# Altium footprint library KeyboardSwitches.PcbLib: 43 footprints (part 1 of 3)
Each footprint in its own frame and in the unit in brackets; x right, y up, seen from the top. Pads: shape width x height; smd on the part's side, far side on the other; paste and mask are expansions set on the pad; w line width, h text height; cw(c..) or ccw(c..) is an arc to the next point about the centre after c.
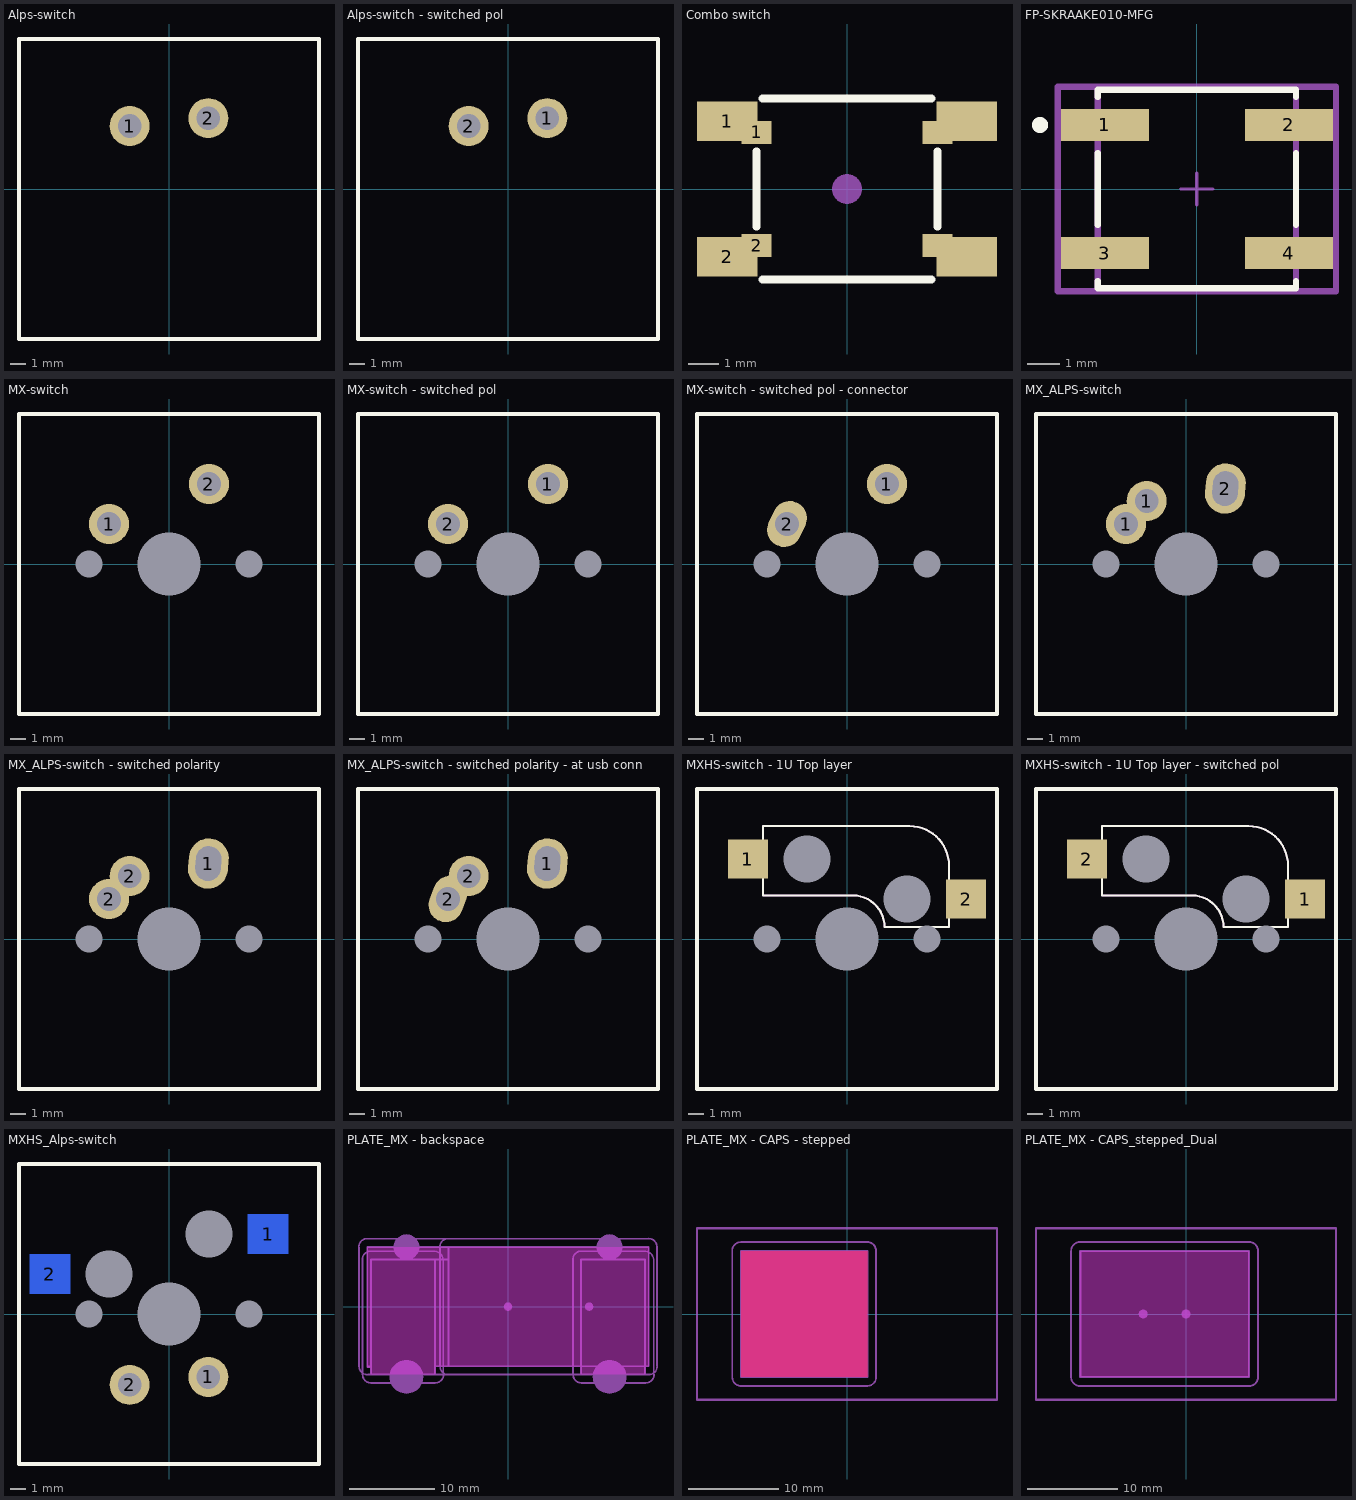
[diagram p0: the footprints below, top view; thin cyan lines are the x and y axes]

## Alps-switch [mm]
pads (2):
  round 2.54 hole 1.499 mask-0.5: 1(-2.5,4) 2(2.5,4.5)
Top Overlay:
  lines w0.254: -9.525,-9.525 9.525,-9.525 9.525,9.525 -9.525,9.525 -9.525,-9.525
Mechanical 1:
  text "TACT Swithch" at -53.086,10.922 h1.52
3D body "asm_mx_asm_PCB.step": height 15.29, standoff -3.31, extent -7.853,-7.673 7.747,7.927

## Alps-switch - switched pol [mm]
pads (2):
  round 2.54 hole 1.499 mask-0.5: 1(2.5,4.5) 2(-2.5,4)
Top Overlay:
  lines w0.254: -9.525,-9.525 9.525,-9.525 9.525,9.525 -9.525,9.525 -9.525,-9.525
3D body "asm_mx_asm_PCB.step": height 15.29, standoff -3.31, extent -7.853,-7.98 7.747,7.62

## Combo switch [mm] "Wurth Electronics Inc."
pads (9):
  rect 2x1.3 smd: 1(-3.975,2.25) 2(-3.975,-2.25) ""(3.975,-2.25) ""(3.975,2.25)
  rect 1x0.75 smd: 1(-3,1.875) 2(-3,-1.875) ""(3,-1.875) ""(3,1.875)
  round 1 on Mech15: ""(0,0)
Top Overlay:
  lines w0.254: -3,-1.25 -3,1.25 ; -2.8,-3 2.8,-3 ; -2.8,3 2.8,3 ; 3,-1.25 3,1.25
3D body "ts-1187a-a-d-b.stp": height 2, standoff 0, extent -3.25,-2.55 3.25,2.55

## FP-SKRAAKE010-MFG [mm]
pads (4):
  rect 2.75x1 smd paste+0 mask+0: 1(-2.875,2) 2(2.875,2) 3(-2.875,-2) 4(2.875,-2)
Top Overlay:
  circle w0.25: c-4.9,2 r0.125
  lines w0.2: -3.1,-2.875 -3.1,-3.1 3.1,-3.1 3.1,-2.875 ; -3.1,-1.125 -3.1,1.125 ; -3.1,2.875 -3.1,3.1 3.1,3.1 3.1,2.875 ; 3.1,-1.125 3.1,1.125
Top 3D Body:
  lines w0.2: -3.1,-3.1 3.1,-3.1 3.1,3.1 -3.1,3.1 -3.1,-3.1
Top Courtyard:
  lines w0.2: -4.35,-3.2 4.35,-3.2 4.35,3.2 -4.35,3.2 -4.35,-3.2
Top Assembly:
  lines w0.2: -4.35,-3.2 4.35,-3.2 4.35,3.2 -4.35,3.2 -4.35,-3.2
  text ".Designator" at 0,0.188 h1
Top Component Center:
  lines w0.1: -0.5,0 0.5,0 ; 0,-0.5 0,0.5
3D body "Switch_ALPS_SKRAAKE010_eec.STEP": height 0.25, standoff 0, extent -4.35,-3.2 4.35,3.2

## MX-switch [mm]
pads (5):
  round 2.54 hole 1.499 mask-0.5: 1(-3.81,2.54) 2(2.54,5.08)
  round 1 hole 1.702 unplated: ""(-5.08,0) ""(5.08,0)
  round 1 hole 3.988 unplated: ""(0,0)
Top Overlay:
  lines w0.254: -9.525,-9.525 9.525,-9.525 9.525,9.525 -9.525,9.525 -9.525,-9.525
3D body "asm_mx_asm_PCB.step": height 15.29, standoff -3.31, extent -7.853,-7.98 7.747,7.62

## MX-switch - switched pol [mm]
pads (5):
  round 2.54 hole 1.499 mask-0.5: 1(2.54,5.08) 2(-3.81,2.54)
  round 1 hole 1.702 unplated: ""(-5.08,0) ""(5.08,0)
  round 1 hole 3.988 unplated: ""(0,0)
Top Overlay:
  lines w0.254: -9.525,-9.525 -9.525,9.525 9.525,9.525 9.525,-9.525 -9.525,-9.525
3D body "asm_mx_asm_PCB.step": height 15.29, standoff -3.31, extent -7.853,-7.98 7.747,7.62

## MX-switch - switched pol - connector [mm]
pads (5):
  round 2.54 hole 1.499 mask-0.5: 1(2.54,5.08)
  oval 2.2x3 hole 1.499 rot 155 mask-0.7: 2(-3.81,2.54)
  round 1 hole 1.702 unplated: ""(-5.08,0) ""(5.08,0)
  round 1 hole 3.988 unplated: ""(0,0)
Top Overlay:
  lines w0.254: -9.525,-9.525 9.525,-9.525 9.525,9.525 -9.525,9.525 -9.525,-9.525
3D body "asm_mx_asm_PCB.step": height 15.29, standoff -3.31, extent -7.853,-7.98 7.747,7.62

## MX_ALPS-switch [mm]
pads (6):
  round 2.54 hole 1.499 mask-0.5: 1(-3.81,2.54) 1(-2.5,4)
  oval 3.2x2.54 hole 1.6 slot 2.2 at 85 deg rot 85 mask-1: 2(2.5,4.79)
  round 1 hole 1.702 unplated: ""(-5.08,0) ""(5.08,0)
  round 1 hole 3.988 unplated: ""(0,0)
Top Overlay:
  lines w0.254: -9.525,-9.525 9.525,-9.525 9.525,9.525 -9.525,9.525 -9.525,-9.525
3D body "asm_mx_asm_PCB.step": height 15.29, standoff -3.31, extent -7.853,-7.98 7.747,7.62

## MX_ALPS-switch - switched polarity [mm]
pads (6):
  oval 3.2x2.54 hole 1.6 slot 2.2 at 85 deg rot 85 mask-1: 1(2.5,4.79)
  round 2.54 hole 1.499 mask-0.5: 2(-3.81,2.54) 2(-2.5,4)
  round 1 hole 1.702 unplated: ""(-5.08,0) ""(5.08,0)
  round 1 hole 3.988 unplated: ""(0,0)
Top Overlay:
  lines w0.254: -9.525,-9.525 -9.525,9.525 9.525,9.525 9.525,-9.525 -9.525,-9.525
3D body "asm_mx_asm_PCB.step": height 15.29, standoff -3.31, extent -7.853,-7.98 7.747,7.62

## MX_ALPS-switch - switched polarity - at usb connector [mm]
pads (6):
  oval 3.2x2.54 hole 1.6 slot 2.2 at 85 deg rot 85 mask-1: 1(2.5,4.79)
  oval 2.2x3 hole 1.499 rot 160 mask-0.7: 2(-3.81,2.54)
  round 2.54 hole 1.499 mask-0.5: 2(-2.5,4)
  round 1 hole 1.702 unplated: ""(-5.08,0) ""(5.08,0)
  round 1 hole 3.988 unplated: ""(0,0)
Top Overlay:
  lines w0.254: -9.525,-9.525 9.525,-9.525 9.525,9.525 -9.525,9.525 -9.525,-9.525
3D body "asm_mx_asm_PCB.step": height 15.29, standoff -3.31, extent -7.853,-7.98 7.747,7.62

## MXHS-switch - 1U Top layer [mm]
pads (7):
  rect 2.55x2.5 smd: 1(-6.29,5.08) 2(7.56,2.54)
  round 1 hole 1.702 unplated: ""(-5.08,0) ""(5.08,0)
  round 0 hole 3 unplated: ""(-2.54,5.08) ""(3.81,2.54)
  round 1 hole 3.988 unplated: ""(0,0)
Top Overlay:
  lines w0.127: -5.319,2.762 -5.319,7.162 3.981,7.162 cw(c3.981,4.662) 6.481,4.662 6.481,0.762 2.381,0.762 ccw(c0.381,0.762) 0.381,2.762 -5.319,2.762
  lines w0.254: -9.525,-9.525 -9.525,9.525 9.525,9.525 9.525,-9.525 -9.525,-9.525
Mechanical 15:
  lines w0.1: 0,-0.5 0,0.5 ; 0.77,0 1.77,0
  lines w0.127: -5.319,2.762 -5.319,7.162 3.981,7.162 cw(c3.981,4.662) 6.481,4.662 6.481,0.762 2.381,0.762 ccw(c0.381,0.762) 0.381,2.762 -5.319,2.762
3D body "kailh_socket_mx.stp": height 0.8, standoff -2.25, extent -6.742,0.968 7.758,6.858

## MXHS-switch - 1U Top layer - switched pol [mm]
pads (7):
  rect 2.55x2.5 smd: 1(7.56,2.54) 2(-6.29,5.08)
  round 1 hole 1.702 unplated: ""(-5.08,0) ""(5.08,0)
  round 0 hole 3 unplated: ""(-2.54,5.08) ""(3.81,2.54)
  round 1 hole 3.988 unplated: ""(0,0)
Top Overlay:
  lines w0.127: -5.319,2.762 0.381,2.762 cw(c0.381,0.762) 2.381,0.762 6.481,0.762 6.481,4.662 ccw(c3.981,4.662) 3.981,7.162 -5.319,7.162 -5.319,2.762
  lines w0.254: -9.525,-9.525 -9.525,9.525 9.525,9.525 9.525,-9.525 -9.525,-9.525
Mechanical 15:
  lines w0.1: 0,-0.5 0,0.5 ; 0.77,0 1.77,0
  lines w0.127: -5.319,2.762 0.381,2.762 cw(c0.381,0.762) 2.381,0.762 6.481,0.762 6.481,4.662 ccw(c3.981,4.662) 3.981,7.162 -5.319,7.162 -5.319,2.762
3D body "kailh_socket_mx.stp": height 0.8, standoff -2.25, extent -6.742,0.968 7.758,6.858

## MXHS_Alps-switch [mm]
pads (9):
  round 2.54 hole 1.499 mask-0.5: 1(2.5,-4) 2(-2.5,-4.5)
  rect 2.55x2.5 smd far side: 1(6.29,5.08) 2(-7.56,2.54)
  round 1 hole 1.702 unplated: ""(-5.08,0) ""(5.08,0)
  round 0 hole 3 unplated: ""(-3.81,2.54) ""(2.54,5.08)
  round 1 hole 3.988 unplated: ""(0,0)
Top Overlay:
  lines w0.254: -9.525,-9.525 -9.525,9.525 9.525,9.525 9.525,-9.525 -9.525,-9.525
3D body "kailh_socket_mx.stp": height 0.8, standoff -2.25, extent -7.758,0.968 6.742,6.858

## PLATE_MX - backspace [mm]
pads (10):
  round 3.988 on Mech13: ""(-11.938,-8.255) ""(11.938,-8.255)
  round 3.048 on Mech13: ""(-11.938,6.985) ""(11.938,6.985)
  round 1 on Mech13: ""(0,0) ""(0,0) ""(0,0) ""(9.525,0) ""(9.525,0) ""(9.525,0)
Top Solder:
  region: -16.114,-9.07 -16.22,-9.07 -16.427,-9.029 -16.623,-8.948 -16.799,-8.83 -16.948,-8.681 -17.066,-8.505 -17.147,-8.309 -17.188,-8.102 -17.188,-7.996 -17.188,-7.982 -17.181,-7.957 -17.168,-7.933 -17.149,-7.915 -17.137,-7.908 -17.244,-7.834 -17.416,-7.639 -17.536,-7.408 -17.598,-7.156 -17.598,-7.026 -17.598,6.945 -17.605,6.952 -17.615,6.968 -17.622,6.986 -17.625,7.004 -17.625,7.014 -17.625,7.12 -17.584,7.327 -17.503,7.523 -17.385,7.699 -17.236,7.848 -17.06,7.966 -16.864,8.047 -16.657,8.088 -16.551,8.088 16.476,8.088 16.482,8.091 16.493,8.096 16.505,8.099 16.518,8.1 16.524,8.1 16.63,8.1 16.837,8.059 17.033,7.978 17.209,7.86 17.358,7.711 17.476,7.535 17.557,7.339 17.598,7.132 17.598,7.026 17.598,-6.945 17.605,-6.952 17.615,-6.968 17.622,-6.986 17.625,-7.004 17.625,-7.014 17.625,-7.141 17.566,-7.39 17.449,-7.617 17.283,-7.811 17.179,-7.885 17.197,-7.889 17.226,-7.907 17.249,-7.934 17.26,-7.966 17.26,-7.984 17.26,-8.087 17.221,-8.291 17.143,-8.483 17.03,-8.656 16.887,-8.805 16.717,-8.924 16.528,-9.008 16.326,-9.054 16.223,-9.058 16.217,-9.061 16.205,-9.066 16.193,-9.069 16.18,-9.07 16.174,-9.07 8.622,-9.07 8.521,-9.07 8.322,-9.033 8.134,-8.958 7.963,-8.851 7.815,-8.713 7.696,-8.549 7.609,-8.367 7.557,-8.171 7.55,-8.07 -7.479,-8.07 -7.487,-8.168 -7.538,-8.357 -7.622,-8.535 -7.737,-8.693 -7.879,-8.829 -8.043,-8.936 -8.224,-9.012 -8.415,-9.054 -8.513,-9.058 -8.519,-9.061 -8.531,-9.066 -8.543,-9.069 -8.556,-9.07 -8.562,-9.07
Bottom Solder:
  region: -16.114,-9.07 -16.22,-9.07 -16.427,-9.029 -16.623,-8.948 -16.799,-8.83 -16.948,-8.681 -17.066,-8.505 -17.147,-8.309 -17.188,-8.102 -17.188,-7.996 -17.188,-7.982 -17.181,-7.957 -17.168,-7.933 -17.149,-7.915 -17.137,-7.908 -17.244,-7.834 -17.416,-7.639 -17.536,-7.408 -17.598,-7.156 -17.598,-7.026 -17.598,6.945 -17.605,6.952 -17.615,6.968 -17.622,6.986 -17.625,7.004 -17.625,7.014 -17.625,7.12 -17.584,7.327 -17.503,7.523 -17.385,7.699 -17.236,7.848 -17.06,7.966 -16.864,8.047 -16.657,8.088 -16.551,8.088 16.476,8.088 16.482,8.091 16.493,8.096 16.505,8.099 16.518,8.1 16.524,8.1 16.63,8.1 16.837,8.059 17.033,7.978 17.209,7.86 17.358,7.711 17.476,7.535 17.557,7.339 17.598,7.132 17.598,7.026 17.598,-6.945 17.605,-6.952 17.615,-6.968 17.622,-6.986 17.625,-7.004 17.625,-7.014 17.625,-7.141 17.566,-7.39 17.449,-7.617 17.283,-7.811 17.179,-7.885 17.197,-7.889 17.226,-7.907 17.249,-7.934 17.26,-7.966 17.26,-7.984 17.26,-8.087 17.221,-8.291 17.143,-8.483 17.03,-8.656 16.887,-8.805 16.717,-8.924 16.528,-9.008 16.326,-9.054 16.223,-9.058 16.217,-9.061 16.205,-9.066 16.193,-9.069 16.18,-9.07 16.174,-9.07 8.622,-9.07 8.521,-9.07 8.322,-9.033 8.134,-8.958 7.963,-8.851 7.815,-8.713 7.696,-8.549 7.609,-8.367 7.557,-8.171 7.55,-8.07 -7.479,-8.07 -7.487,-8.168 -7.538,-8.357 -7.622,-8.535 -7.737,-8.693 -7.879,-8.829 -8.043,-8.936 -8.224,-9.012 -8.415,-9.054 -8.513,-9.058 -8.519,-9.061 -8.531,-9.066 -8.543,-9.069 -8.556,-9.07 -8.562,-9.07
Keep-Out Layer:
  board cut-out: -16.1,-7.97 -16.1,-7.1 -16.525,-7.1 -16.525,7 16.525,7 16.525,-6.996 16.1,-6.996 16.1,-7.97 8.576,-7.97 8.576,-6.996 -8.576,-6.996 -8.576,-7.97
Mechanical 13:
  lines w0.2: -17.525,7.014 cw(c-16.551,7.014) -16.551,7.988 -3.048,7.988 ; -17.498,6.987 -17.498,-7.026 ccw(c-16.524,-7.026) -16.524,-8 ; -17.1,5.544 cw(c-16.126,5.544) -16.126,6.518 -8.716,6.518 cw(c-8.716,5.406) -7.604,5.406 -7.604,-7.956 ; -17.088,5.532 -17.088,-7.996 ccw(c-16.114,-7.996) -16.114,-8.97 -8.562,-8.97 ; -16.494,-7.97 -16.1,-7.97 ; -16.115,-7 -16.525,-7 -16.525,7 -7,7 ; -8.576,-7 -7,-7 ; -8.55,-8.958 ccw(c-8.55,-7.984) -7.576,-7.984 ; -8,7.014 cw(c-7.026,7.014) -7.026,7.988 16.512,7.988 ; -7.988,7.002 -7.988,-7.026 ccw(c-7.014,-7.026) -7.014,-8 ; -7.058,5.53 -8.576,5.53 ; -6.984,-7.97 8.576,-7.97 ; -6.731,-7.97 -8.576,-7.97 ; 7.636,5.544 cw(c8.61,5.544) 8.61,6.518 16.02,6.518 cw(c16.02,5.406) 17.132,5.406 17.132,-7.956 ; 7.648,5.532 7.648,-7.996 ccw(c8.622,-7.996) 8.622,-8.97 16.174,-8.97 ; 8.576,-6.858 8.576,-7.97 ; 16.118,-7.988 16.551,-7.988 ccw(c16.551,-7.014) 17.525,-7.014 ; 16.186,-8.958 ccw(c16.186,-7.984) 17.16,-7.984 ; 16.524,8 cw(c16.524,7.026) 17.498,7.026 17.498,-6.987 ; -16.1,-7.97 -16.1,5.53 -8.576,5.53 ; -16.1,-7.97 -8.576,-7.97 ; -8.576,-7.97 -8.576,5.53 ; -7,-7 -7,7 ; -7,-7 16.525,-7 16.525,7 -7,7 ; 8.576,-7.97 16.1,-7.97 ; 8.576,-7.97 16.1,-7.97 ; 8.576,-7.97 8.576,5.53 16.1,5.53 16.1,-7.97 ; 8.576,-7.97 16.1,-7.97
Mechanical 15:
  lines w0.2: -8.576,-6.985 -8.576,-7.97 -16.1,-7.97 -16.1,-7.1 -16.525,-7.1 ; -8.562,-6.999 8.576,-6.999 8.576,-7.97 16.1,-7.97 16.1,-7 16.51,-7 ; 16.525,-6.985 16.525,7 -16.525,7 -16.525,-7.1 ; -16.525,-7.1 -16.525,-7.1

## PLATE_MX - CAPS - stepped [mm]
pads (2):
  round 1 on Mech13: ""(-4.763,0) ""(-4.763,0)
Top Layer:
  pour cut-out: -11.763,-7 2.238,-7 2.238,7 -11.763,7
Top Solder:
  region: -12.751,-7.026 -12.751,-7.122 -12.713,-7.31 -12.64,-7.487 -12.533,-7.647 -12.397,-7.783 -12.238,-7.889 -12.06,-7.963 -11.872,-8 -11.776,-8 2.251,-8 2.263,-7.988 2.359,-7.988 2.547,-7.951 2.725,-7.877 2.884,-7.771 3.02,-7.635 3.127,-7.475 3.2,-7.298 3.237,-7.11 3.237,-7.014 3.237,7.014 3.226,7.026 3.226,7.122 3.188,7.31 3.115,7.487 3.008,7.647 2.872,7.783 2.713,7.889 2.535,7.963 2.347,8 2.251,8 -11.776,8 -11.788,7.988 -11.884,7.988 -12.072,7.951 -12.25,7.877 -12.409,7.771 -12.545,7.635 -12.652,7.475 -12.725,7.298 -12.762,7.11 -12.762,7.014
Bottom Solder:
  region: -12.751,-7.026 -12.751,-7.122 -12.713,-7.31 -12.64,-7.487 -12.533,-7.647 -12.397,-7.783 -12.238,-7.889 -12.06,-7.963 -11.872,-8 -11.776,-8 2.251,-8 2.263,-7.988 2.359,-7.988 2.547,-7.951 2.725,-7.877 2.884,-7.771 3.02,-7.635 3.127,-7.475 3.2,-7.298 3.237,-7.11 3.237,-7.014 3.237,7.014 3.226,7.026 3.226,7.122 3.188,7.31 3.115,7.487 3.008,7.647 2.872,7.783 2.713,7.889 2.535,7.963 2.347,8 2.251,8 -11.776,8 -11.788,7.988 -11.884,7.988 -12.072,7.951 -12.25,7.877 -12.409,7.771 -12.545,7.635 -12.652,7.475 -12.725,7.298 -12.762,7.11 -12.762,7.014
Keep-Out Layer:
  board cut-out: -11.763,-7 2.238,-7 2.238,7 -11.763,7
Mechanical 13:
  lines w0.2: -12.762,-7.014 -12.762,7.014 cw(c-11.788,7.014) -11.788,7.988 ; -12.751,-7.026 ccw(c-11.776,-7.026) -11.776,-8 2.251,-8 ; -11.776,8 2.251,8 cw(c2.251,7.026) 3.226,7.026 ; 2.263,-7.988 ccw(c2.263,-7.014) 3.237,-7.014 3.237,7.014
  lines w0.254: -16.669,-9.525 -16.669,9.525 16.669,9.525 16.669,-9.525 ; -16.669,-9.525 16.669,-9.525 ; -16.669,-9.525 16.669,-9.525 ; -11.763,-7 -11.763,7 2.238,7 2.238,-7 -11.763,-7
  text ".Designator" at -7.85,-7.5 h0.7
Mechanical 15:
  lines w0.254: -11.763,-7 2.238,-7 2.238,7 -11.763,7 -11.763,-7

## PLATE_MX - CAPS_stepped_Dual [mm]
pads (2):
  round 1 on Mech13: ""(-4.763,0) ""(0,0)
Top Solder:
  region: -11.791,-8 -11.887,-8 -12.075,-7.963 -12.253,-7.889 -12.412,-7.783 -12.548,-7.647 -12.655,-7.487 -12.728,-7.31 -12.766,-7.122 -12.766,-7.026 -12.766,7.026 -12.762,7.029 -12.762,7.125 -12.725,7.313 -12.652,7.49 -12.545,7.65 -12.409,7.786 -12.25,7.892 -12.072,7.966 -11.884,8.003 -11.788,8.003 7.026,8.003 7.029,8 7.125,8 7.313,7.963 7.49,7.889 7.65,7.783 7.786,7.647 7.892,7.487 7.966,7.31 8.003,7.122 8.003,7.026 8.003,-7.026 8,-7.029 8,-7.125 7.963,-7.313 7.889,-7.49 7.783,-7.65 7.647,-7.786 7.487,-7.892 7.31,-7.966 7.122,-8.003 7.026,-8.003
Bottom Solder:
  region: -11.791,-8 -11.887,-8 -12.075,-7.963 -12.253,-7.889 -12.412,-7.783 -12.548,-7.647 -12.655,-7.487 -12.728,-7.31 -12.766,-7.122 -12.766,-7.026 -12.766,7.026 -12.762,7.029 -12.762,7.125 -12.725,7.313 -12.652,7.49 -12.545,7.65 -12.409,7.786 -12.25,7.892 -12.072,7.966 -11.884,8.003 -11.788,8.003 7.026,8.003 7.029,8 7.125,8 7.313,7.963 7.49,7.889 7.65,7.783 7.786,7.647 7.892,7.487 7.966,7.31 8.003,7.122 8.003,7.026 8.003,-7.026 8,-7.029 8,-7.125 7.963,-7.313 7.889,-7.49 7.783,-7.65 7.647,-7.786 7.487,-7.892 7.31,-7.966 7.122,-8.003 7.026,-8.003
Keep-Out Layer:
  board cut-out: -11.763,-7 -11.762,7 7,7 7,-7
Mechanical 13:
  lines w0.2: -12.766,7.026 -12.766,-7.026 ccw(c-11.791,-7.026) -11.791,-8 ; -12.762,7.029 cw(c-11.788,7.029) -11.788,8.003 7.026,8.003 ; -11.788,-8.003 7.026,-8.003 ccw(c7.026,-7.029) 8,-7.029 ; 7.029,8 cw(c7.029,7.026) 8.003,7.026 8.003,-7.026
  lines w0.254: -16.669,-9.525 16.669,-9.525 ; -16.669,-9.525 16.669,-9.525 ; -16.669,-9.525 -16.669,9.525 16.669,9.525 16.669,-9.525 ; -11.763,-7 -11.763,7 7,7 7,-7 -11.763,-7
Mechanical 15:
  lines w0.254: -11.763,-7 7,-7 7,7 -11.763,7 -11.763,-7